# Altium footprint library ONSHORE_OSTVN02A150.PcbLib: 1 footprints
Each footprint in its own frame and in the unit in brackets; x right, y up, seen from the top. Pads: shape width x height; smd on the part's side, far side on the other; paste and mask are expansions set on the pad; w line width, h text height; cw(c..) or ccw(c..) is an arc to the next point about the centre after c.
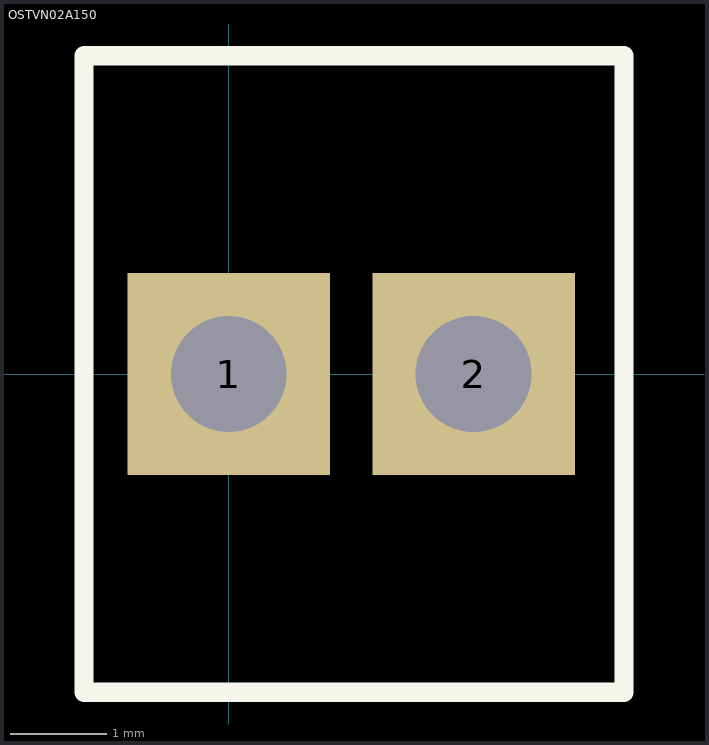
[diagram p0: the footprint, top view; thin cyan lines are the x and y axes]

## OSTVN02A150 [mm]
pads (2):
  rect 2.1x2.1 hole 1.2: 1(0,0) 2(2.54,0)
Top Overlay:
  lines w0.2: -1.5,-3.3 4.1,-3.3 4.1,3.3 -1.5,3.3 -1.5,-3.3